# EAGLE library part SN74LVC2G74 (library DAC)
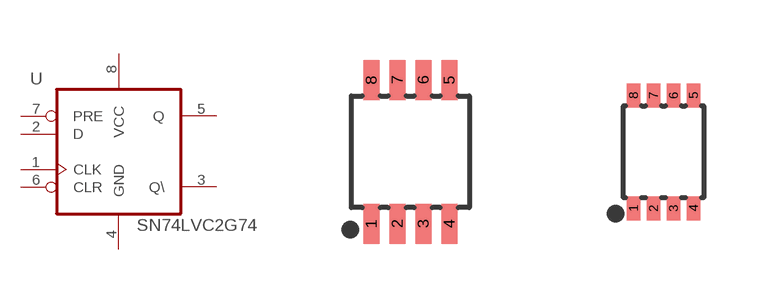
[diagram p21: symbol with the pads of TI-DCT; footprints TI-DCT, TI-DCU]

Designator prefix U

## SN74LVC2G74DCTR  [TI-DCT]
1  CLK  in
2  D  in
3  Q\  out
4  GND  pwr
5  Q  out
6  CLR  in
7  PRE  in
8  VCC  pwr

## SN74LVC2G74DCUR  [TI-DCU]
Pads as for TI-DCT

## Footprint TI-DCT (pad centres in mm)
smd 0.4 x 1: 1 -0.975,-1.8; 2 -0.325,-1.8; 3 0.325,-1.8; 4 0.975,-1.8; 5 0.975,1.8; 6 0.325,1.8; 7 -0.325,1.8; 8 -0.975,1.8

## Footprint TI-DCU (pad centres in mm)
smd 0.33 x 0.6: 1 -0.75,-1.413; 2 -0.25,-1.413; 3 0.25,-1.413; 4 0.75,-1.413; 5 0.75,1.413; 6 0.25,1.413; 7 -0.25,1.413; 8 -0.75,1.413